# EAGLE library part LCD-DMC1602B (library DodoLcd)
LCD display 16 x 2 backlight
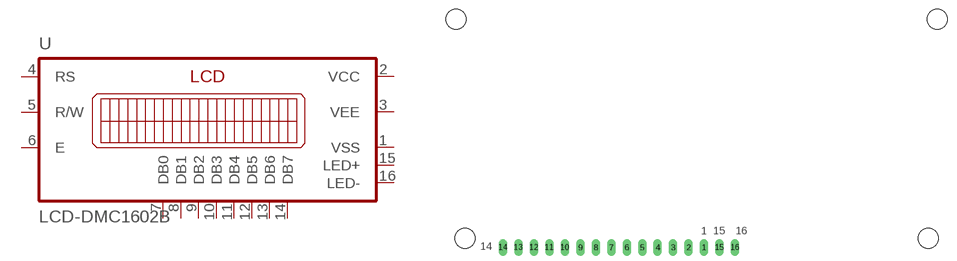
[diagram p2: symbol with the pads of DMC1602B; footprint DMC1602B]

Designator prefix -

## LCD-DMC1602B  [DMC1602B]
1  VSS  pwr
2  VCC  pwr
3  VEE  pwr
4  RS  in
5  R/W  in
6  E  in
7  DB0  pas
8  DB1  pas
9  DB2  pas
10  DB3  pas
11  DB4  pas
12  DB5  pas
13  DB6  pas
14  DB7  pas
15  LED+
16  LED-

## Footprint DMC1602B (pad centres in mm)
LCD display 16 x2 backlight
drill 0.9 long: 1 1.22,-19.5; 2 -1.32,-19.5; 3 -3.86,-19.5; 4 -6.4,-19.5; 5 -8.94,-19.5; 6 -11.48,-19.5; 7 -14.02,-19.5; 8 -16.56,-19.5; 9 -19.1,-19.5; 10 -21.64,-19.5; 11 -24.18,-19.5; 12 -26.72,-19.5; 13 -29.26,-19.5; 14 -31.8,-19.5; 15 3.76,-19.5; 16 6.3,-19.5
hole 3.3 at -39.5,18
hole 3.3 at -38,-18
hole 3.3 at 38,-18
hole 3.3 at 39.5,18